# Altium schematic symbol library NMOS.Schlib: 1 symbol
Pins are listed as number, name and electrical type; pins without a type are passive.

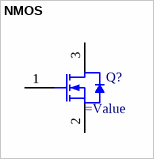
[diagram p0: symbol NMOS]

## NMOS
designator Q?
NMOS
pins: 1 G, 2 S, 3 D